# EAGLE library part VNC2-32Q1B (library FTDI_By_element14_Batch_1)
Dual USB Host Controller IC
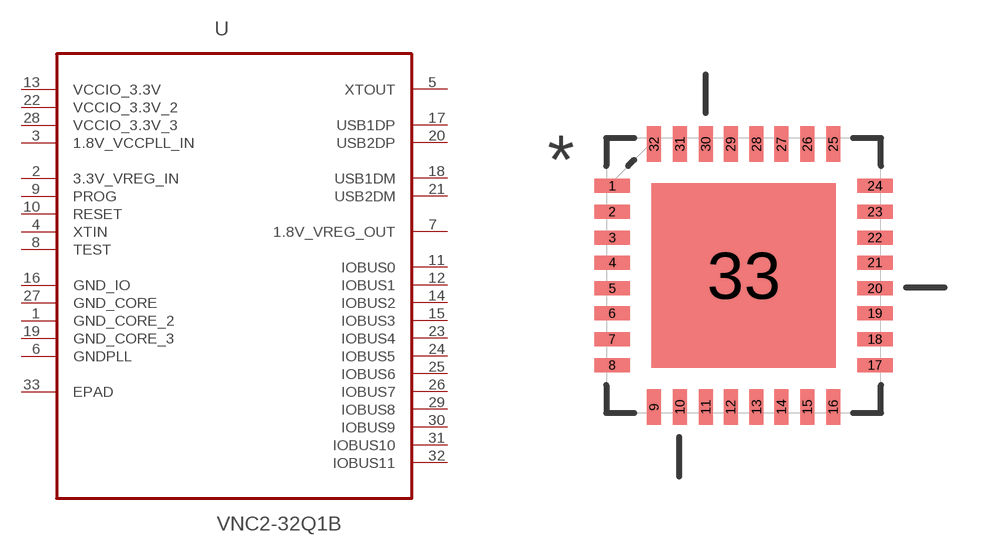
[diagram p1: symbol with the pads of QFN65P700X700X100-33N; footprint QFN65P700X700X100-33N]

Designator prefix U

## VNC2-32Q1B (MPN: VNC2-32Q1B; OC_FARNELL: 1863855; OC_NEWARK: 27T5919; PACKAGE: QFN-32; SUPPLIER: FTDI)  [QFN65P700X700X100-33N]
1  GND_CORE_2  pas
2  3.3V_VREG_IN  in
3  1.8V_VCCPLL_IN  pwr
4  XTIN  in
5  XTOUT  out
6  GNDPLL  pas
7  1.8V_VREG_OUT  out
8  TEST  in
9  PROG  in
10  RESET  in
11  IOBUS0
12  IOBUS1
13  VCCIO_3.3V  pwr
14  IOBUS2
15  IOBUS3
16  GND_IO  pas
17  USB1DP
18  USB1DM
19  GND_CORE_3  pas
20  USB2DP
21  USB2DM
22  VCCIO_3.3V_2  pwr
23  IOBUS4
24  IOBUS5
25  IOBUS6
26  IOBUS7
27  GND_CORE  pas
28  VCCIO_3.3V_3  pwr
29  IOBUS8
30  IOBUS9
31  IOBUS10
32  IOBUS11
33  EPAD  in

## Footprint QFN65P700X700X100-33N (pad centres in mm)
smd 0.914 x 0.356: 1 -3.353,2.286; 2 -3.353,1.626; 3 -3.353,0.965; 4 -3.353,0.33; 5 -3.353,-0.33; 6 -3.353,-0.965; 7 -3.353,-1.626; 8 -3.353,-2.286; 17 3.353,-2.286; 18 3.353,-1.626; 19 3.353,-0.965; 20 3.353,-0.33; 21 3.353,0.33; 22 3.353,0.965; 23 3.353,1.626; 24 3.353,2.286
smd 0.356 x 0.914: 9 -2.286,-3.353; 10 -1.626,-3.353; 11 -0.965,-3.353; 12 -0.33,-3.353; 13 0.33,-3.353; 14 0.965,-3.353; 15 1.626,-3.353; 16 2.286,-3.353; 25 2.286,3.353; 26 1.626,3.353; 27 0.965,3.353; 28 0.33,3.353; 29 -0.33,3.353; 30 -0.965,3.353; 31 -1.626,3.353; 32 -2.286,3.353
smd 4.699 x 4.699: 33 0,0